# Altium footprint library ANTS-PCU-B1.PcbLib: 12 footprints
Each footprint in its own frame and in the unit in brackets; x right, y up, seen from the top. Pads: shape width x height; smd on the part's side, far side on the other; paste and mask are expansions set on the pad; w line width, h text height; cw(c..) or ccw(c..) is an arc to the next point about the centre after c.
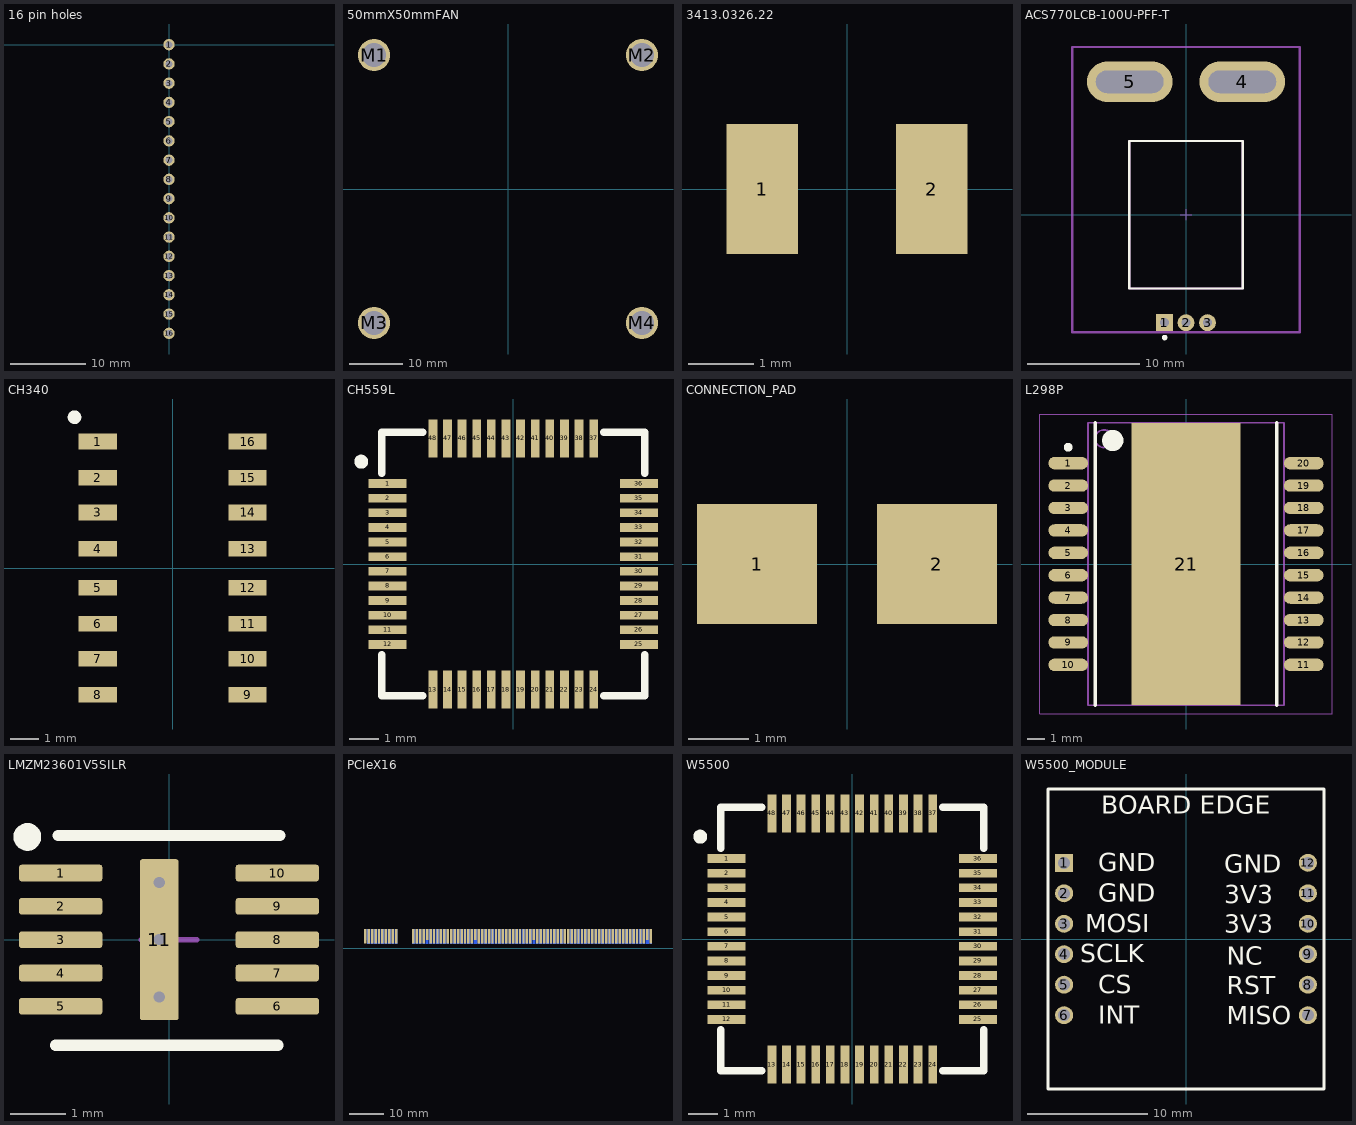
[diagram p0: the footprints below, top view; thin cyan lines are the x and y axes]

## 16 pin holes [mm]
pads (16):
  round 1.5 hole 0.9: 1(0,0) 2(0,-2.54) 3(0,-5.08) 4(0,-7.62) 5(0,-10.16) 6(0,-12.7) 7(0,-15.24) 8(0,-17.78) 9(0,-20.32) 10(0,-22.86) 11(0,-25.4) 12(0,-27.94) 13(0,-30.48) 14(0,-33.02) 15(0,-35.56) 16(0,-38.1)

## 50mmX50mmFAN [mm]
pads (4):
  round 6 hole 4.5: M1(-25,25) M2(25,25) M3(-25,-25) M4(25,-25)

## 3413.0326.22 [mm]
pads (2):
  rect 1.1x2 smd: 1(-1.3,0) 2(1.3,0)
3D body "3413.0326.22.step": height 0.67, standoff 0, extent -1.624,-0.7 1.6,0.9

## ACS770LCB-100U-PFF-T [mm]
pads (5):
  rect 1.5x1.5 hole 0.8 paste-1000 mask+0: 1(-1.91,-9.59)
  round 1.5 hole 0.8 paste-1000 mask+0: 2(0,-9.59) 3(1.91,-9.59)
  rrect100% 7.6x3.6 hole 2 slot 6 at 0 deg paste-1000 mask+0: 4(5,11.809) 5(-5,11.809)
Top Overlay:
  circle w0.25: c-1.9,-10.916 r0.125
  lines w0.2: -5.05,-6.55 5.05,-6.55 5.05,6.55 -5.05,6.55 -5.05,-6.55
Mechanical 5:
  lines w0.2: -10.099,-10.44 10.099,-10.44 10.099,14.91 -10.099,14.91 -10.099,-10.44
  text ".Designator" at 0,2.422 h1
Mechanical 13:
  lines w0.2: -5.05,-6.55 5.05,-6.55 5.05,6.55 -5.05,6.55 -5.05,-6.55
Mechanical 15:
  lines w0.2: -10.099,-10.44 10.099,-10.44 10.099,14.91 -10.099,14.91 -10.099,-10.44
Mechanical 16:
  lines w0.1: -0.5,0 0.5,0 ; 0,-0.5 0,0.5
3D body "IC_Allegro_MicroSystems_LLC_ACS756KCB-050B-PFF-T_eec.STEP": height 0.25, standoff 0, extent -10.099,-10.44 10.099,14.91

## CH340 [mm]
pads (16):
  rect 1.35x0.55 smd mask+0.05: 1(-2.625,4.445) 2(-2.625,3.175) 3(-2.625,1.955) 4(-2.625,0.685) 5(-2.625,-0.685) 6(-2.625,-1.955) 7(-2.625,-3.175) 8(-2.625,-4.445) 9(2.625,-4.445) 10(2.625,-3.175) 11(2.625,-1.955) 12(2.625,-0.685) 13(2.625,0.685) 14(2.625,1.955) 15(2.625,3.175) 16(2.625,4.445)
Top Overlay:
  circle w0.254: c-3.45,5.3 r0.112
3D body "SO16 Narrow 3.9mm.step": height 1.35, standoff 0, extent -2.99,-4.95 2.99,4.95

## CH559L [mm]
pads (48):
  rect 1.3x0.3 smd mask+0.05: 1(-4.3,2.75) 2(-4.3,2.25) 3(-4.3,1.75) 4(-4.3,1.25) 5(-4.3,0.75) 6(-4.3,0.25) 7(-4.3,-0.25) 8(-4.3,-0.75) 9(-4.3,-1.25) 10(-4.3,-1.75) 11(-4.3,-2.25) 12(-4.3,-2.75) 25(4.3,-2.75) 26(4.3,-2.25) 27(4.3,-1.75) 28(4.3,-1.25) 29(4.3,-0.75) 30(4.3,-0.25) 31(4.3,0.25) 32(4.3,0.75) 33(4.3,1.25) 34(4.3,1.75) 35(4.3,2.25) 36(4.3,2.75)
  rect 0.3x1.3 smd mask+0.05: 13(-2.75,-4.3) 14(-2.25,-4.3) 15(-1.75,-4.3) 16(-1.25,-4.3) 17(-0.75,-4.3) 18(-0.25,-4.3) 19(0.25,-4.3) 20(0.75,-4.3) 21(1.25,-4.3) 22(1.75,-4.3) 23(2.25,-4.3) 24(2.75,-4.3) 37(2.75,4.3) 38(2.25,4.3) 39(1.75,4.3) 40(1.25,4.3) 41(0.75,4.3) 42(0.25,4.3) 43(-0.25,4.3) 44(-0.75,4.3) 45(-1.25,4.3) 46(-1.75,4.3) 47(-2.25,4.3) 48(-2.75,4.3)
Top Overlay:
  circle w0.254: c-5.2,3.5 r0.112
  lines w0.254: -4.5,-3.1 -4.5,-4.5 -3.1,-4.5 ; -4.5,3.1 -4.5,4.5 -3.1,4.5 ; 3.1,-4.5 4.5,-4.5 4.5,-3.1 ; 3.1,4.5 4.5,4.5 4.5,3.1
3D body "LQFP-48_7x7mm_P0.5mm.step": height 1.5, standoff 0, extent -4.5,-4.5 4.5,4.5

## CONNECTION_PAD [mm]
pads (2):
  rect 2x2 smd: 1(-1.5,0) 2(1.5,0)

## L298P [mm] "SOIC, 20-Leads, Body 16x11.1mm, Pitch 1.27mm, Thermal Pad 16x6.2mm, IPC Low Density"
height 3.6
pads (21):
  oval 2.25x0.7 smd: 1(-6.675,5.715) 2(-6.675,4.445) 3(-6.675,3.175) 4(-6.675,1.905) 5(-6.675,0.635) 6(-6.675,-0.635) 7(-6.675,-1.905) 8(-6.675,-3.175) 9(-6.675,-4.445) 10(-6.675,-5.715) 11(6.675,-5.715) 12(6.675,-4.445) 13(6.675,-3.175) 14(6.675,-1.905) 15(6.675,-0.635) 16(6.675,0.635) 17(6.675,1.905) 18(6.675,3.175) 19(6.675,4.445) 20(6.675,5.715)
  rect 6.2x16 smd: 21(0,0)
Top Overlay:
  circle w0.6: c-4.15,7 r0.3
  circle w0.25: c-6.675,6.615 r0.125
  lines w0.2: -5.15,-8 -5.15,8 ; 5.15,-8 5.15,8
Mechanical 13:
  circle w0.1: c-4.65,7.1 r0.5
  lines w0.1: -5.55,-8 5.55,-8 5.55,8 -5.55,8 -5.55,-8
Mechanical 15:
  lines w0.05: -8.3,-8.5 8.3,-8.5 8.3,8.5 -8.3,8.5 -8.3,-8.5
  lines w0.1: -0.5,0 0.5,0 ; 0,-0.5 0,0.5
3D body "SOIC127P1420X360_HS-21M.step": height 3.6, standoff 0, extent -7.1,-8 7.1,8

## LMZM23601V5SILR [mm]
pads (11):
  rrect33% 1.5x0.3 smd paste+0 mask+0: 1(-1.95,1.2) 2(-1.95,0.6) 3(-1.95,0) 4(-1.95,-0.6) 5(-1.95,-1.2) 6(1.95,-1.2) 7(1.95,-0.6) 8(1.95,0) 9(1.95,0.6) 10(1.95,1.2)
  rrect14% 0.7x2.9 smd paste-1000 mask+0: 11(-0.175,0)
via -0.175,1.03 diameter 0.5 hole 0.2
via -0.175,0 diameter 0.5 hole 0.2
via -0.175,-1.03 diameter 0.5 hole 0.2
Top Overlay:
  circle w0.25: c-2.55,1.85 r0.125
  lines w0.2: -2.04,-1.9 1.96,-1.9 ; -2,1.875 2,1.875
Top Paste:
  region: 0.175,1.396 0.175,0.663 0.175,0.654 0.167,0.635 0.153,0.621 0.135,0.613 0.125,0.613 -0.475,0.613 -0.485,0.613 -0.503,0.621 -0.517,0.635 -0.525,0.654 -0.525,0.663 -0.525,1.396 -0.525,1.406 -0.517,1.425 -0.503,1.439 -0.485,1.446 -0.475,1.446 0.125,1.446 0.135,1.446 0.153,1.439 0.167,1.425 0.175,1.406
  region: -0.475,-0.416 -0.485,-0.416 -0.503,-0.409 -0.517,-0.395 -0.525,-0.376 -0.525,-0.366 -0.525,0.366 -0.525,0.376 -0.517,0.395 -0.503,0.409 -0.485,0.416 -0.475,0.416 0.125,0.416 0.135,0.416 0.153,0.409 0.167,0.395 0.175,0.376 0.175,0.366 0.175,-0.366 0.175,-0.376 0.167,-0.395 0.153,-0.409 0.135,-0.416 0.125,-0.416
  region: 0.175,-0.663 0.175,-1.396 0.175,-1.406 0.167,-1.425 0.153,-1.439 0.135,-1.446 0.125,-1.446 -0.475,-1.446 -0.485,-1.446 -0.503,-1.439 -0.517,-1.425 -0.525,-1.406 -0.525,-1.396 -0.525,-0.663 -0.525,-0.654 -0.517,-0.635 -0.503,-0.621 -0.485,-0.613 -0.475,-0.613 0.125,-0.613 0.135,-0.613 0.153,-0.621 0.167,-0.635 0.175,-0.654
Mechanical 5:
  text ".Designator" at 2.2,-2.238 h1
Mechanical 16:
  lines w0.1: -0.5,0 0.5,0 ; 0,-0.5 0,0.5
3D body "UNK_Texas_Instruments_LMZM23600V5SILR_eec.STEP": height 0.25, standoff 0, extent -2.05,-1.65 2.05,1.65

## PCIeX16 [mm]
pads (160):
  rect 0.7x3.2 smd far side: A1(45.65,4)
  rect 0.7x4.2 smd far side: A2(46.65,3.5) A3(47.65,3.5) A4(48.65,3.5) A5(49.65,3.5) A6(50.65,3.5) A7(51.65,3.5) A8(52.65,3.5) A9(53.65,3.5) A10(54.65,3.5) A13(59.65,3.5) A14(60.65,3.5) A15(61.65,3.5) A16(62.65,3.5) A17(63.65,3.5) A18(64.65,3.5) A19(65.65,3.5) A20(66.65,3.5) A21(67.65,3.5) A22(68.65,3.5) A23(69.65,3.5) A24(70.65,3.5) A25(71.65,3.5) A26(72.65,3.5) A27(73.65,3.5) A28(74.65,3.5) A29(75.65,3.5) A30(76.65,3.5) A31(77.65,3.5) A32(78.65,3.5) A33(79.65,3.5) A34(80.65,3.5) A35(81.65,3.5) A36(82.65,3.5) A37(83.65,3.5) A38(84.65,3.5) A39(85.65,3.5) A40(86.65,3.5) A41(87.65,3.5) A42(88.65,3.5) A43(89.65,3.5) A44(90.65,3.5) A45(91.65,3.5) A46(92.65,3.5) A47(93.65,3.5) A48(94.65,3.5) A49(95.65,3.5) A50(96.65,3.5) A51(97.65,3.5) A52(98.65,3.5) A53(99.65,3.5) A54(100.65,3.5) A55(101.65,3.5) A56(102.65,3.5) A57(103.65,3.5) A58(104.65,3.5) A59(105.65,3.5) A60(106.65,3.5) A61(107.65,3.5) A62(108.65,3.5) A63(109.65,3.5) A64(110.65,3.5) A65(111.65,3.5) A66(112.65,3.5) A67(113.65,3.5) A68(114.65,3.5) A69(115.65,3.5) A70(116.65,3.5) A71(117.65,3.5) A72(118.65,3.5) A73(119.65,3.5) A74(120.65,3.5) A75(121.65,3.5) A76(122.65,3.5) A77(123.65,3.5) A78(124.65,3.5) A79(125.65,3.5) A80(126.65,3.5) A81(127.65,3.5) A82(128.65,3.5)
  rect 0.7x4.2 smd: B1(45.65,3.5) B2(46.65,3.5) B3(47.65,3.5) B4(48.65,3.5) B5(49.65,3.5) B6(50.65,3.5) B7(51.65,3.5) B8(52.65,3.5) B9(53.65,3.5) B10(54.65,3.5) B13(59.65,3.5) B14(60.65,3.5) B15(61.65,3.5) B16(62.65,3.5) B18(64.65,3.5) B19(65.65,3.5) B20(66.65,3.5) B21(67.65,3.5) B22(68.65,3.5) B23(69.65,3.5) B24(70.65,3.5) B25(71.65,3.5) B26(72.65,3.5) B27(73.65,3.5) B28(74.65,3.5) B29(75.65,3.5) B30(76.65,3.5) B32(78.65,3.5) B33(79.65,3.5) B34(80.65,3.5) B35(81.65,3.5) B36(82.65,3.5) B37(83.65,3.5) B38(84.65,3.5) B39(85.65,3.5) B40(86.65,3.5) B41(87.65,3.5) B42(88.65,3.5) B43(89.65,3.5) B44(90.65,3.5) B45(91.65,3.5) B46(92.65,3.5) B47(93.65,3.5) B49(95.65,3.5) B50(96.65,3.5) B51(97.65,3.5) B52(98.65,3.5) B53(99.65,3.5) B54(100.65,3.5) B55(101.65,3.5) B56(102.65,3.5) B57(103.65,3.5) B58(104.65,3.5) B59(105.65,3.5) B60(106.65,3.5) B61(107.65,3.5) B62(108.65,3.5) B63(109.65,3.5) B64(110.65,3.5) B65(111.65,3.5) B66(112.65,3.5) B67(113.65,3.5) B68(114.65,3.5) B69(115.65,3.5) B70(116.65,3.5) B71(117.65,3.5) B72(118.65,3.5) B73(119.65,3.5) B74(120.65,3.5) B75(121.65,3.5) B76(122.65,3.5) B77(123.65,3.5) B78(124.65,3.5) B79(125.65,3.5) B80(126.65,3.5) B82(128.65,3.5)
  rect 0.7x3.2 smd: B17(63.65,4) B31(77.65,4) B48(94.65,4) B81(127.65,4)
Top Solder:
  rectangle: 44.75,-0.25 129.55,5.725
Bottom Solder:
  rectangle: 44.75,-0.25 129.55,5.725

## W5500 [mm]
pads (48):
  rect 1.3x0.3 smd mask+0.05: 1(-4.3,2.75) 2(-4.3,2.25) 3(-4.3,1.75) 4(-4.3,1.25) 5(-4.3,0.75) 6(-4.3,0.25) 7(-4.3,-0.25) 8(-4.3,-0.75) 9(-4.3,-1.25) 10(-4.3,-1.75) 11(-4.3,-2.25) 12(-4.3,-2.75) 25(4.3,-2.75) 26(4.3,-2.25) 27(4.3,-1.75) 28(4.3,-1.25) 29(4.3,-0.75) 30(4.3,-0.25) 31(4.3,0.25) 32(4.3,0.75) 33(4.3,1.25) 34(4.3,1.75) 35(4.3,2.25) 36(4.3,2.75)
  rect 0.3x1.3 smd mask+0.05: 13(-2.75,-4.3) 14(-2.25,-4.3) 15(-1.75,-4.3) 16(-1.25,-4.3) 17(-0.75,-4.3) 18(-0.25,-4.3) 19(0.25,-4.3) 20(0.75,-4.3) 21(1.25,-4.3) 22(1.75,-4.3) 23(2.25,-4.3) 24(2.75,-4.3) 37(2.75,4.3) 38(2.25,4.3) 39(1.75,4.3) 40(1.25,4.3) 41(0.75,4.3) 42(0.25,4.3) 43(-0.25,4.3) 44(-0.75,4.3) 45(-1.25,4.3) 46(-1.75,4.3) 47(-2.25,4.3) 48(-2.75,4.3)
Top Overlay:
  circle w0.254: c-5.2,3.5 r0.112
  lines w0.254: -4.5,-3.1 -4.5,-4.5 -3.1,-4.5 ; -4.5,3.1 -4.5,4.5 -3.1,4.5 ; 3.1,-4.5 4.5,-4.5 4.5,-3.1 ; 3.1,4.5 4.5,4.5 4.5,3.1
3D body "LQFP-48_7x7mm_P0.5mm.step": height 1.5, standoff 0, extent -4.5,-4.5 4.5,4.5

## W5500_MODULE [mm]
pads (12):
  rect 1.5x1.5 hole 1: 1(-10.16,6.35)
  round 1.5 hole 1: 2(-10.16,3.81) 3(-10.16,1.27) 4(-10.16,-1.27) 5(-10.16,-3.81) 6(-10.16,-6.35) 7(10.16,-6.35) 8(10.16,-3.81) 9(10.16,-1.27) 10(10.16,1.27) 11(10.16,3.81) 12(10.16,6.35)
Top Overlay:
  lines w0.254: -11.5,-12.5 -11.5,12.5 11.5,12.5 11.5,-12.5 -11.5,-12.5
  text "BOARD EDGE" at -7.05,10.45 h1.52
  text "GND" at -7.3,5.65 h1.52
  text "GND" at -7.3,3.11 h1.52
  text "MOSI" at -8.4,0.55 h1.52
  text "SCLK" at -8.8,-1.95 h1.52
  text "CS" at -7.3,-4.51 h1.52
  text "INT" at -7.3,-7.05 h1.52
  text "MISO" at 3.4,-7.1 h1.52
  text "RST" at 3.4,-4.6 h1.52
  text "NC" at 3.4,-2.15 h1.52
  text "3V3" at 3.2,0.5 h1.52
  text "3V3" at 3.2,2.96 h1.52
  text "GND" at 3.2,5.5 h1.52